# Altium integrated library Linear Technology Power Management Switching Regulator LTC1174-LTC3901.IntLib: 2647 symbols (part 150 of 364)
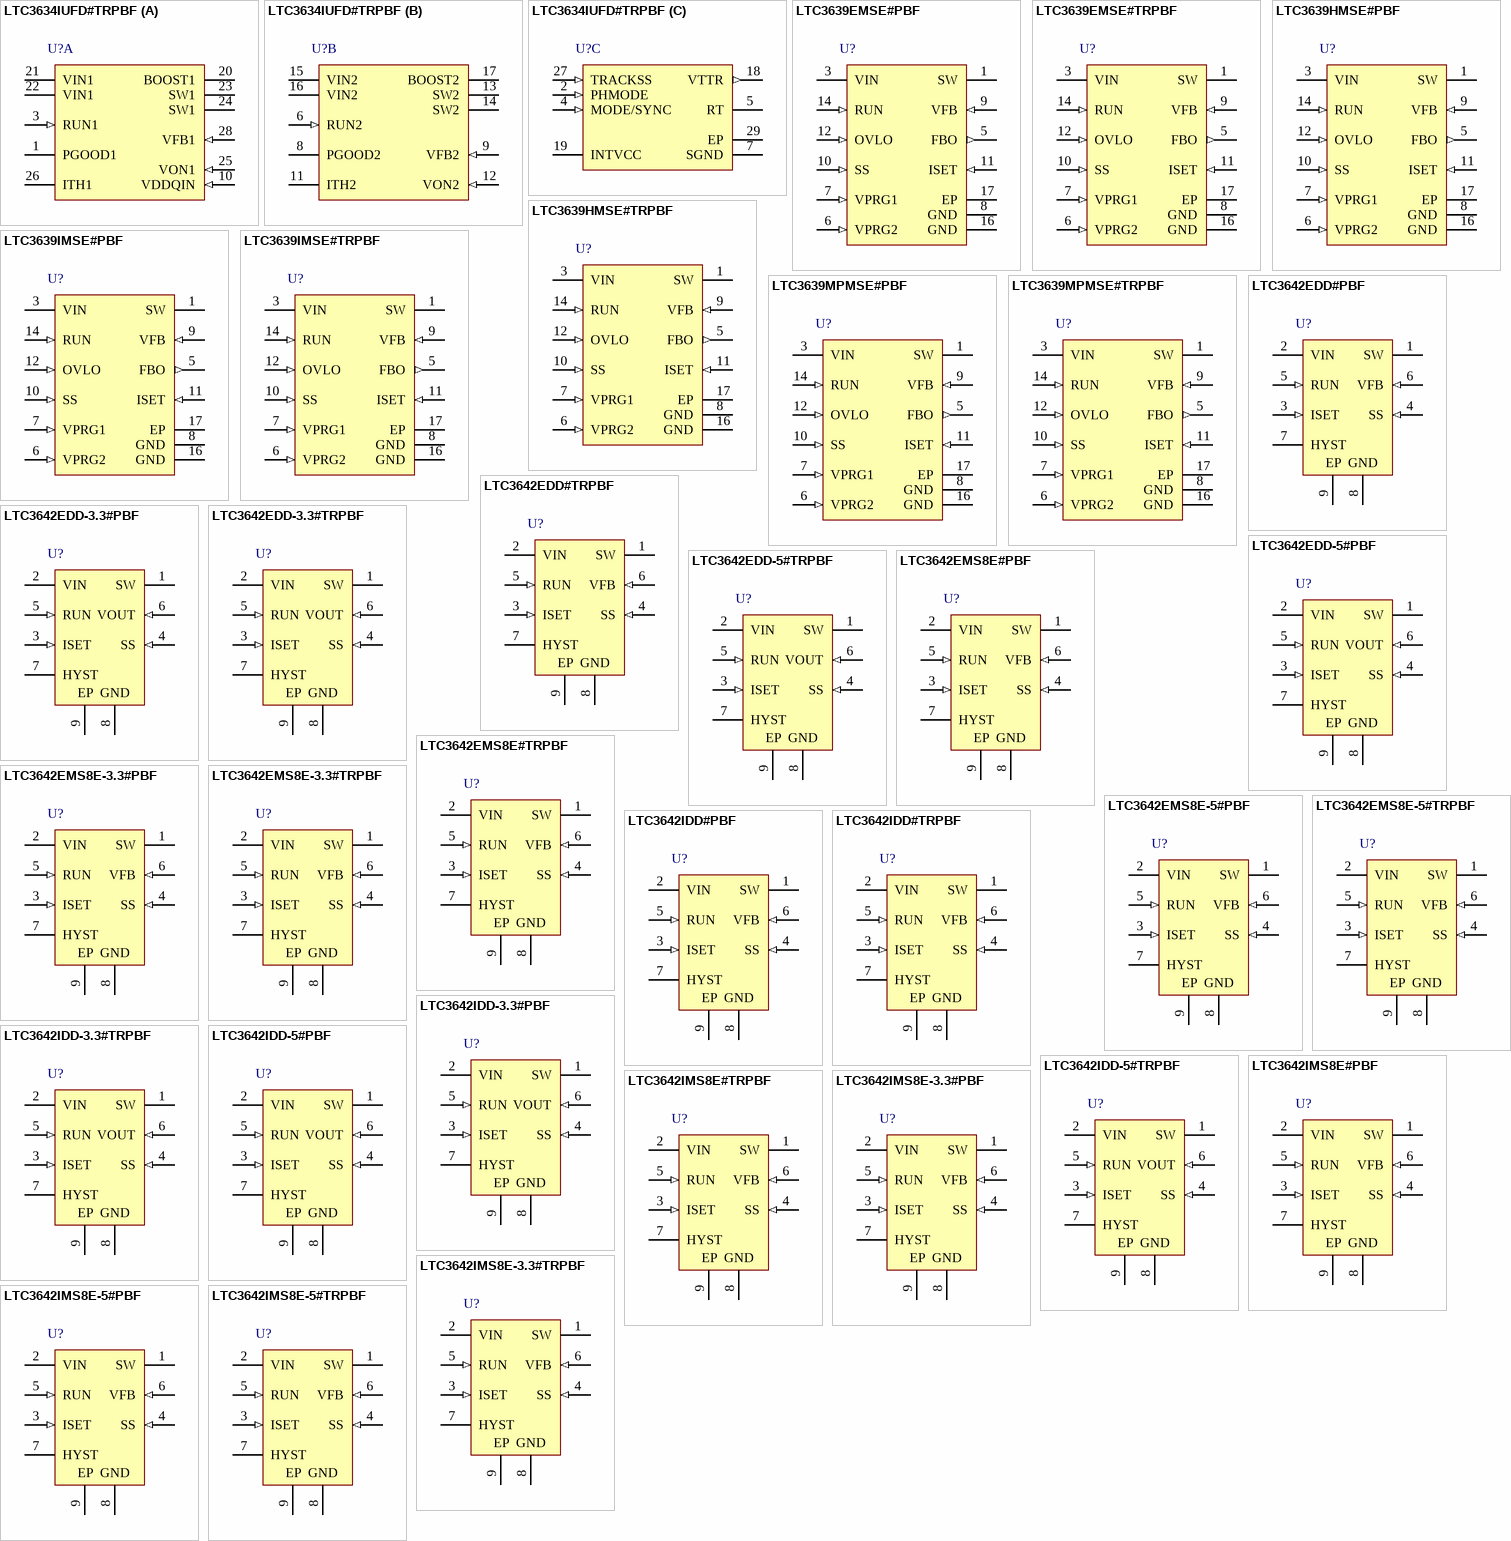
[diagram p291: symbols LTC3634IUFD#TRPBF to LTC3642IMS8E-5#TRPBF]

## LTC3639EMSE#TRPBF
designator U?
High Efficiency, 100 mA Synchronous Step-Down Regulator, 16-pin SOP (MSE-16-V(12)4PR-EDP), -40 to 125 degC, Pb-Free, Tape and Reel; Manufacturer: Linear Technology; PartNumber: LTC3639EMSE#TRPBF; Number of Outputs: 1; DatasheetVersion: Rev. A; PackageVersion: Rev. D, 05/2013; PackageReference: MSE-16; PackageDescription: 12-Pin Plastic MSOP, Exposed Die Pad, Body 4.039 x 3 mm, Pitch 0.5 mm; Supplier 1: Digi-Key; Supplier Part Number 1: LTC3639EMSE#TRPBF-ND; Supplier 2: Newark; Supplier Part Number 2: 86W7557; Packing: Tape and Reel; RoHS: TRUE; Mounting Technology: Surface Mount; ComponentLink1Description: Manufacturer URL; ComponentLink1URL: http://www.linear.com/; ComponentLink2Description: Datasheet; ComponentLink2URL: http://cds.linear.com/docs/en/datasheet/3639fa.pdf; ComponentLink3Description: Package Specification; ComponentLink3URL: http://cds.linear.com/docs/en/packaging/05081871_D_MSE16(12).pdf
footprint LT-MSE-16-V(12)4PR-EDP_N (SOP, 12-Leads, Body 4.1x3.1mm, Pitch 0.5mm, Thermal Pad 1.76x2.95mm, IPC Medium Density)
footprint LT-MSE-16-V(12)4PR-EDP_L (SOP, 12-Leads, Body 4.1x3.1mm, Pitch 0.5mm, Thermal Pad 1.76x2.95mm, IPC High Density)
footprint LT-MSE-16-V(12)4PR-EDP_M (SOP, 12-Leads, Body 4.1x3.1mm, Pitch 0.5mm, Thermal Pad 1.76x2.95mm, IPC Low Density)
pins: 1 SW (power) "Switch Node Connection to Inductor. This pin connects to the drains of the internal power MOSFET switches.", 3 VIN (power) "Main Supply Pin. A ceramic bypass capacitor should be tied between this pin and GND.", 5 FBO (out) "Feedback Comparator Output. Connect to the VFB pins of additional LTC3639s to combine the output current. The typical pull-up current is 20uA. The typical pulldown impedance is 70ohm. See Applications Information.", 6 VPRG2 (in) "Output Voltage Selection. Short both pins to ground for a resistive divider programmable output voltage. Short VPRG1 to SS and short VPRG2 to ground for a 5V output voltage. Short VPRG1 to ground and short VPRG2 to SS for a (See Datasheet)", 7 VPRG1 (in) "Output Voltage Selection. Short both pins to ground for a resistive divider programmable output voltage. Short VPRG1 to SS and short VPRG2 to ground for a 5V output voltage. Short VPRG1 to ground and short VPRG2 to SS for a (See Datasheet)", 8 GND (power) "Ground.", 9 VFB (in) "Output Voltage Feedback. When configured for an adjustable output voltage, connect to an external resistive divider to divide the output voltage down for comparison to the 0.8V reference. For the fixed output configuration, (See Datasheet)", 10 SS (in) "Soft-Start Control Input. A capacitor to ground at this pin sets the output voltage ramp time. A 50uA current initially charges the soft-start capacitor until switching begins, at which time the current is reduced to its (See Datasheet)", 11 ISET (in) "Peak Current Set Input. A resistor from this pin to ground sets the peak current comparator threshold. Leave floating for the maximum peak current (230mA typical) or short to ground for minimum peak current (25mA typical). (See Datasheet)", 12 OVLO (in) "Overvoltage Lockout Input. Connect to the input supply through a resistor divider to set the overvoltage lockout level. A voltage on this pin above 1.21V disables the internal MOSFET switches. Normal operation resumes when (See Datasheet)", 14 RUN (in) "Run Control Input. A voltage on this pin above 1.21V enables normal operation. Forcing this pin below 0.7V shuts down the LTC3639, reducing quiescent current to approximately 1.4uA. Optionally, connect to the input supply (See Datasheet)", 16 GND (power) "Ground.", 17 EP (power) "Ground. The exposed pad must be soldered to the PCB ground plane for rated thermal performance."